# EAGLE library part OLED_128X32_I2C (library BusinessCard)
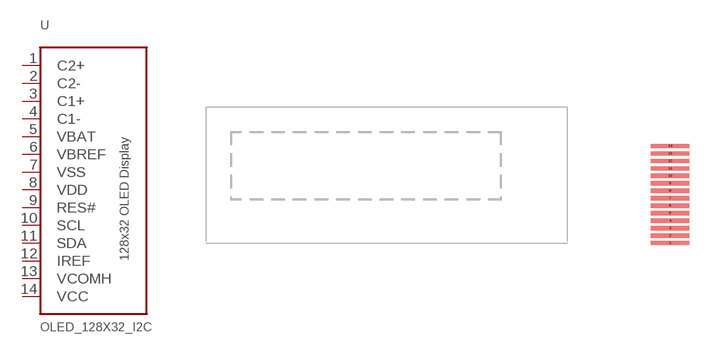
[diagram p1: symbol with the pads of OLED_I2C; footprint OLED_I2C]

Designator prefix -

## OLED_128X32_I2C  [OLED_I2C]
1  C2+
2  C2-
3  C1+
4  C1-
5  VBAT  pwr
6  VBREF  pwr
7  VSS  pwr
8  VDD  pwr
9  RES#
10  SCL
11  SDA
12  IREF
13  VCOMH  pwr
14  VCC  pwr

## Footprint OLED_I2C (pad centres in mm)
smd 3.2 x 0.35: 1 8.53,-0.03; 2 8.53,0.59; 3 8.53,1.21; 4 8.53,1.83; 5 8.53,2.45; 6 8.53,3.07; 7 8.53,3.69; 8 8.53,4.31; 9 8.53,4.93; 10 8.53,5.55; 11 8.53,6.17; 12 8.53,6.79; 13 8.53,7.41; 14 8.53,8.03